# EAGLE library part LT3502 (library PowerProducts)
LT-Spice library generated with : ltspice.ulp from: E:/Programme/LTC/LTspiceIV/lib/sym/PowerProducts/LT3502A*.asy at 05.10.2012 12:27:16
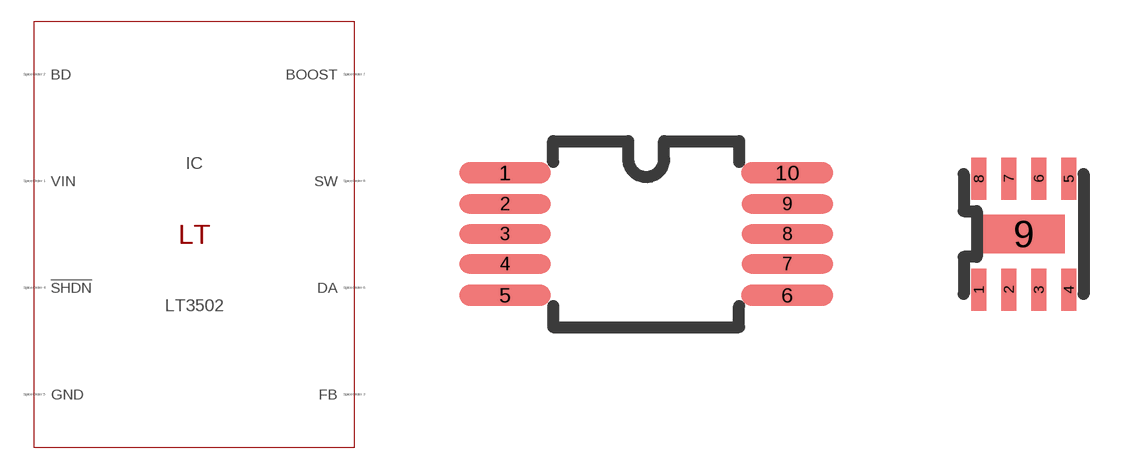
[diagram p62: symbol with the pads of MSOP10(MS); footprints MSOP10(MS), DFN8(DC)]

Designator prefix IC

## LT3502MS (SPICEMODEL: LT3502.sub; SPICEPREFIX: X; VALUE2: LT3502)  [MSOP10(MS)]
1  SW  pas
2  BOOST  pas
4  DA  pas
5  GND  pas
6  !SHDN  pas
7  FB  pas
8  BD  pas
10  VIN  pas

## LT3502 (SPICEMODEL: LT3502.sub; SPICEPREFIX: X; VALUE2: LT3502)  [DFN8(DC)]
1  VIN  pas
2  BD  pas
3  FB  pas
4  !SHDN  pas
5  GND  pas
6  DA  pas
7  BOOST  pas
8  SW  pas
9  GND  pas

## Footprint MSOP10(MS) (pad centres in mm)
Package generated from: MSOP10(MS).asc (!PADS-POWERPCB-V5.0-BASIC! DESIGN DATABASE ASCII FILE 1.0) with :import-pads-powerpcb-v5.ulp Version 1.0.1 at 04.10.2012 14:11:19
smd 2.295 x 0.54: 1 -3.529,1.53; 5 -3.529,-1.53; 6 3.529,-1.53; 10 3.529,1.53
smd 2.295 x 0.48: 2 -3.529,0.75; 3 -3.529,0; 4 -3.529,-0.75; 7 3.529,-0.75; 8 3.529,0; 9 3.529,0.75

## Footprint DFN8(DC) (pad centres in mm)
Package generated from: DFN8(DC).asc (!PADS-POWERPCB-V5.0-BASIC! DESIGN DATABASE ASCII FILE 1.0) with :import-pads-powerpcb-v5.ulp Version 1.0.1 at 04.10.2012 14:11:17
smd 0.375 x 1.05: 1 -1.125,-1.387; 2 -0.375,-1.387; 3 0.375,-1.387; 4 1.125,-1.387; 5 1.125,1.387; 6 0.375,1.387; 7 -0.375,1.387; 8 -1.125,1.387
smd 2.055 x 0.96: 9 0,0